# EAGLE library part CAM-MODULE-OV7660 (library stutz-eagle)
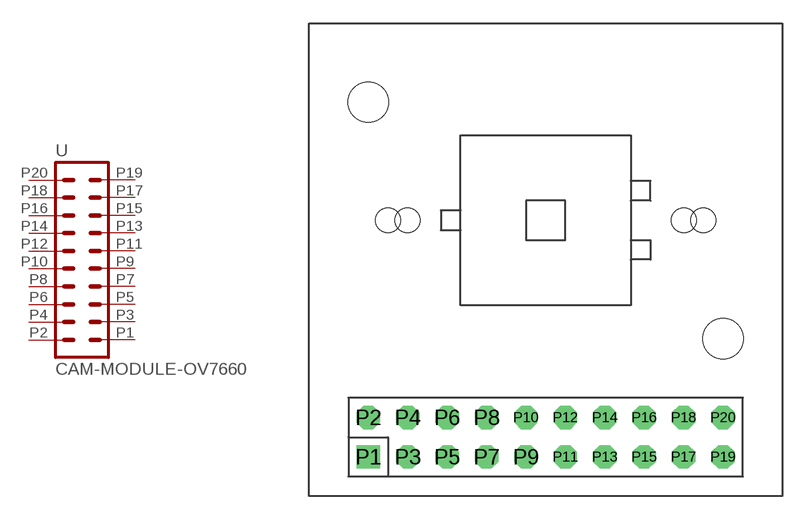
[diagram p15: symbol with the pads of CAM-MODULE-OV7660; footprint CAM-MODULE-OV7660]

Designator prefix -

## CAM-MODULE-OV7660  [CAM-MODULE-OV7660]
P1  1  pas
P2  2  pas
P3  3  pas
P4  4  pas
P5  5  pas
P6  6  pas
P7  7  pas
P8  8  pas
P9  9  pas
P10  10  pas
P11  11  pas
P12  12  pas
P13  13  pas
P14  14  pas
P15  15  pas
P16  16  pas
P17  17  pas
P18  18  pas
P19  19  pas
P20  20  pas

## Footprint CAM-MODULE-OV7660 (pad centres in mm)
drill 1 square: P1 -11.43,-15.24
drill 1 octagon: P2 -11.43,-12.7; P3 -8.89,-15.24; P4 -8.89,-12.7; P5 -6.35,-15.24; P6 -6.35,-12.7; P7 -3.81,-15.24; P8 -3.81,-12.7; P9 -1.27,-15.24; P10 -1.27,-12.7; P11 1.27,-15.24; P12 1.27,-12.7; P13 3.81,-15.24; P14 3.81,-12.7; P15 6.35,-15.24; P16 6.35,-12.7; P17 8.89,-15.24; P18 8.89,-12.7; P19 11.43,-15.24; P20 11.43,-12.7
hole 2.6 at -11.43,7.62
hole 2.6 at 11.43,-7.62
hole 1.6 at -10.16,0
hole 1.6 at -8.89,0
hole 1.6 at 10.16,0
hole 1.6 at 8.89,0